# Altium footprint library Relay.PcbLib: 6 footprints
Each footprint in its own frame and in the unit in brackets; x right, y up, seen from the top. Pads: shape width x height; smd on the part's side, far side on the other; paste and mask are expansions set on the pad; w line width, h text height; cw(c..) or ccw(c..) is an arc to the next point about the centre after c.
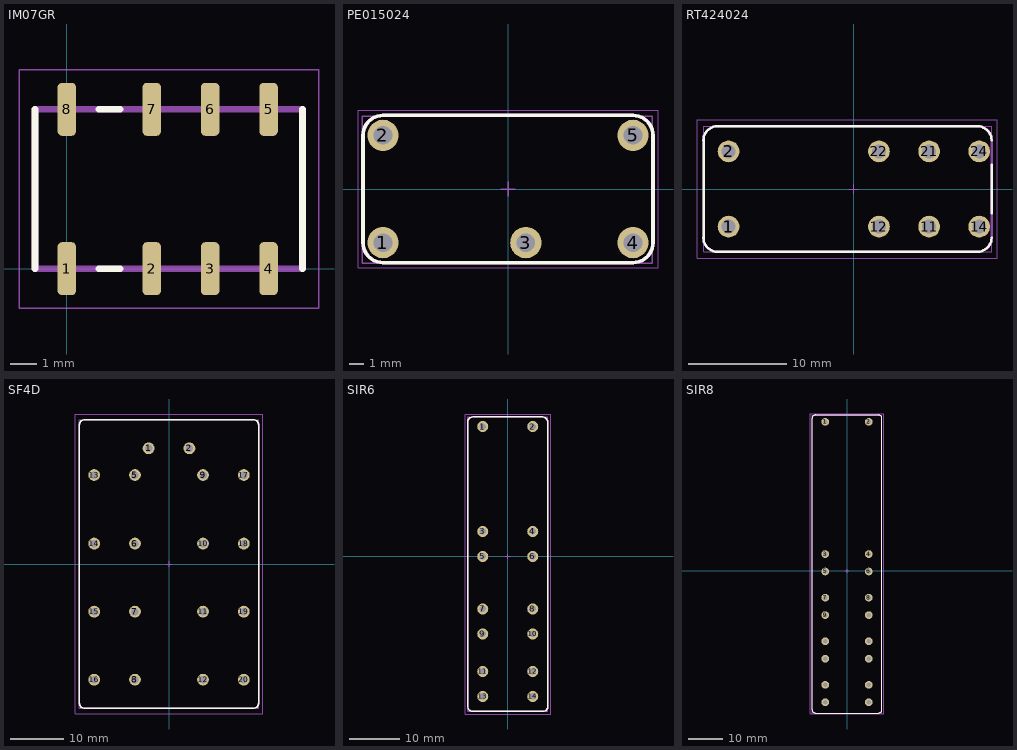
[diagram p0: the footprints below, top view; thin cyan lines are the x and y axes]

## IM07GR [mm]
height 5.65
pads (8):
  rrect50% 0.7x2 smd: 1(0,0) 2(3.2,0) 3(5.4,0) 4(7.6,0) 5(7.6,6) 6(5.4,6) 7(3.2,6) 8(0,6)
Top Overlay:
  lines w0.254: -1.2,0 -1.2,6 ; 1.2,0 2,0 ; 1.2,6 2,6 ; 8.88,0 8.88,6
Top Assy:
  lines w0.254: -1.2,0 -1.2,6 8.88,6 8.88,0 -1.2,0
Mechanical 13:
  lines w0.1: -1.2,0 -1.2,6 8.88,6 8.88,0 -1.2,0
Mechanical 15:
  lines w0.05: -1.8,-1.5 -1.8,7.5 9.5,7.5 9.5,-1.5 -1.8,-1.5
  lines w0.1: -0.5,0 0.5,0 ; 0,-0.5 0,0.5
3D body: height 10, standoff 0, extent -1.2,0 8.9,6

## PE015024 [mm]
height 10
pads (5):
  round 2.2 hole 1.3: 1(-8.75,-3.75) 2(-8.75,3.75) 3(1.25,-3.75) 4(8.75,-3.75) 5(8.75,3.75)
Top Overlay:
  lines w0.254: -10.15,-3.75 ccw(c-8.75,-3.75) -8.75,-5.15 8.75,-5.15 ccw(c8.75,-3.75) 10.15,-3.75 10.15,3.75 ccw(c8.75,3.75) 8.75,5.15 -8.75,5.15 ccw(c-8.75,3.75) -10.15,3.75 -10.15,-3.75
Top Assy:
  lines w0.254: -10.15,-3.75 ccw(c-8.75,-3.75) -8.75,-5.15 8.75,-5.15 ccw(c8.75,-3.75) 10.15,-3.75 10.15,3.75 ccw(c8.75,3.75) 8.75,5.15 -8.75,5.15 ccw(c-8.75,3.75) -10.15,3.75 -10.15,-3.75
Mechanical 13:
  lines w0.1: -10.2,-5.2 10.1,-5.2 10.1,5.1 -10.2,5.1 -10.2,-5.2
Mechanical 15:
  lines w0.05: -10.5,-5.5 10.5,-5.5 10.5,5.5 -10.5,5.5 -10.5,-5.5
  lines w0.1: -0.5,0 0.5,0 ; 0,-0.5 0,0.5
3D body: height 10, standoff 0, extent -10.2,-5.2 10.1,5.1

## RT424024 [mm]
height 15.7
pads (8):
  round 2.2 hole 1.4: 1(-12.7,-3.81) 2(-12.7,3.81) 11(7.62,-3.81) 12(2.54,-3.81) 14(12.7,-3.81) 21(7.62,3.81) 22(2.54,3.81) 24(12.7,3.81)
Top Overlay:
  lines w0.254: -15.25,-4.95 ccw(c-13.85,-4.95) -13.85,-6.35 ; -15.25,4.95 cw(c-13.85,4.95) -13.85,6.35 ; -15.24,-5.05 -15.24,5 ; -13.95,-6.35 12.6,-6.35 ; -13.95,6.35 12.7,6.35 ; 12.55,-6.35 ccw(c12.55,-4.95) 13.95,-4.95 ; 12.55,6.35 cw(c12.55,4.95) 13.95,4.95 ; 13.97,-2.45 13.97,2.45
Top Assy:
  lines w0.254: -15.25,-4.95 ccw(c-13.85,-4.95) -13.85,-6.35 ; -15.25,4.95 cw(c-13.85,4.95) -13.85,6.35 ; -15.24,-5.05 -15.24,5 ; -13.95,-6.35 12.6,-6.35 ; -13.95,6.35 12.7,6.35 ; 12.55,-6.35 ccw(c12.55,-4.95) 13.95,-4.95 ; 12.55,6.35 cw(c12.55,4.95) 13.95,4.95 ; 13.97,-5 13.97,5.05
Mechanical 13:
  lines w0.1: -15.24,-6.35 -15.24,6.35 13.97,6.35 13.97,-6.35 -15.2,-6.35
Mechanical 15:
  lines w0.05: -15.9,-7 14.5,-7 14.5,7 -15.9,7 -15.9,-7
  lines w0.1: -0.5,0 0.5,0 ; 0,-0.5 0,0.5
3D body: height 10, standoff 0, extent -15.3,-6.4 13.9,6.4

## SF4D [mm]
height 16.5
pads (18):
  round 2.2 hole 1.4: 1(-3.81,21.59) 2(3.81,21.59) 5(-6.35,16.61) 6(-6.35,3.81) 7(-6.35,-8.89) 8(-6.35,-21.59) 9(6.35,16.61) 10(6.35,3.81) 11(6.35,-8.89) 12(6.35,-21.59) 13(-13.97,16.61) 14(-13.97,3.81) 15(-13.97,-8.89) 16(-13.97,-21.59) 17(13.97,16.61) 18(13.97,3.81) 19(13.97,-8.89) 20(13.97,-21.59)
Top Overlay:
  lines w0.254: -16.75,-25.9 ccw(c-15.75,-25.9) -15.75,-26.9 15.75,-26.9 ccw(c15.75,-25.9) 16.75,-25.9 16.75,25.9 ccw(c15.75,25.9) 15.75,26.9 -15.75,26.9 ccw(c-15.75,25.9) -16.75,25.9 -16.75,-25.9
Top Assy:
  lines w0.254: -16.75,-25.9 ccw(c-15.75,-25.9) -15.75,-26.9 15.75,-26.9 ccw(c15.75,-25.9) 16.75,-25.9 16.75,25.9 ccw(c15.75,25.9) 15.75,26.9 -15.75,26.9 ccw(c-15.75,25.9) -16.75,25.9 -16.75,-25.9
Mechanical 13:
  lines w0.1: -16.75,-26.9 -16.75,26.9 16.75,26.9 16.75,-26.9 -16.75,-26.9
Mechanical 15:
  lines w0.05: -17.5,-28 -17.5,28 17.5,28 17.5,-28 -17.5,-28
  lines w0.1: -0.5,0 0.5,0 ; 0,-0.5 0,0.5
3D body: height 16.5, standoff 0, extent -16.7,-26.9 16.7,26.9

## SIR6 [mm]
height 30.7
pads (14):
  round 2.2 hole 1.3: 1(-5,26) 2(5,26) 3(-5,5) 4(5,5) 5(-5,0) 6(5,0) 7(-5,-10.5) 8(5,-10.5) 9(-5,-15.5) 10(5,-15.5) 11(-5,-23) 12(5,-23) 13(-5,-28) 14(5,-28)
Top Overlay:
  lines w0.254: -8,-30 ccw(c-7,-30) -7,-31 7,-31 ccw(c7,-30) 8,-30 8,26.8 ccw(c6.95,26.85) 7,27.9 -7,27.9 ccw(c-7,26.9) -8,26.9 -8,-30
Top Assy:
  lines w0.254: -8,-30 ccw(c-7,-30) -7,-31 7,-31 ccw(c7,-30) 8,-30 8,26.9 ccw(c7,26.9) 7,27.9 -7,27.9 ccw(c-7,26.9) -8,26.9 -8,-30
Mechanical 13:
  lines w0.1: -8,-31 -8,27.9 8,27.9 8,-31 -8,-31
Mechanical 15:
  lines w0.05: -8.5,-31.5 -8.5,28.5 8.6,28.5 8.6,-31.5 -8.5,-31.5
  lines w0.1: -0.5,0 0.5,0 ; 0,-0.5 0,0.5
3D body: height 30.7, standoff 0, extent -8,-31 8,27.9

## SIR8 [mm]
height 32
pads (18):
  round 2.2 hole 1.3: 1(-6.25,42.75) 2(6.25,42.75) 3(-6.25,4.85) 4(6.25,4.85) 5(-6.25,-0.15) 6(6.25,-0.15) 7(-6.25,-7.65) 8(6.25,-7.65) 9(-6.25,-12.65) 10(6.25,-12.65) 11(-6.25,-20.15) 12(6.25,-20.15) 13(-6.25,-25.15) 14(6.25,-25.15) 15(-6.25,-32.65) 16(6.25,-32.65) 17(-6.25,-37.65) 18(6.25,-37.65)
Top Overlay:
  lines w0.254: -10,-39.75 ccw(c-9,-39.75) -9,-40.75 9,-40.75 ccw(c9,-39.75) 10,-39.75 10,43.75 ccw(c9,43.75) 9,44.75 -9,44.75 ccw(c-9,43.75) -10,43.75 -10,-39.75
Top Assy:
  lines w0.254: -10,-39.75 ccw(c-9,-39.75) -9,-40.75 9,-40.75 ccw(c9,-39.75) 10,-39.75 10,43.75 ccw(c9,43.75) 9,44.75 -9,44.75 ccw(c-9,43.75) -10,43.75 -10,-39.75
Mechanical 13:
  lines w0.1: -10,-40.8 -10,44.7 10,44.7 10,-40.8 -10,-40.8
Mechanical 15:
  lines w0.05: -10.5,-41 -10.5,45 10.5,45 10.5,-41 -10.5,-41
  lines w0.1: -0.5,0 0.5,0 ; 0,-0.5 0,0.5
3D body: height 32, standoff 0, extent -10,-40.8 10,44.7